# EAGLE library part PLC810PG (library power_integrations)
The PLC810PG is a combined PFC and LLC off-line controller with integrated high voltage half-bridge drivers. Figure 1 shows a simplified schematic of a PLC810PG based power supply where the LLC resonant inductor is integrated into the transformer. The PFC section of the PLC810PG is a universal input continuous current mode (CCM) design that does not require a sinusoidal input reference, thereby reducing system cost and external components. The DC-DC controller drives an LLC resonant topology. This variable frequency controller provides high efficiency by switching the power MOSFETs at zero voltage, eliminating most switching losses. The LLC controller is built around a current controlled oscillator with a control range selected to support the traditional frequency of operation found in televisions.
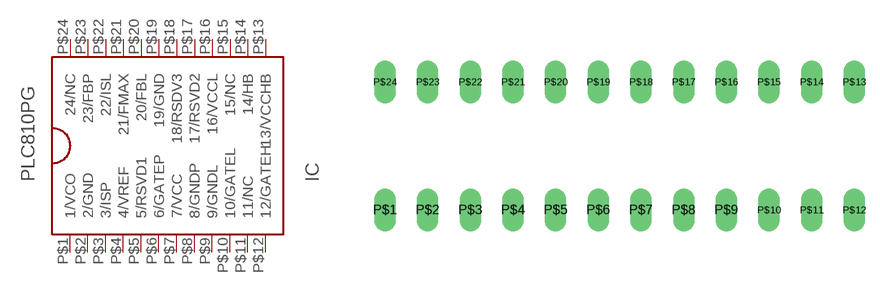
[diagram p8: symbol with the pads of PDIP-24_(0,3_P_PACKAGE); footprint PDIP-24_(0,3_P_PACKAGE)]

Designator prefix IC

## PLC810PG  [PDIP-24_(0,3_P_PACKAGE)]
P$1  1/VCO
P$2  2/GND  pwr
P$3  3/ISP
P$4  4/VREF
P$5  5/RSVD1
P$6  6/GATEP
P$7  7/VCC  pwr
P$8  8/GNDP  pwr
P$9  9/GNDL  pwr
P$10  10/GATEL
P$11  11/NC  nc
P$12  12/GATEH
P$13  13/VCCHB  pwr
P$14  14/HB
P$15  15/NC  nc
P$16  16/VCCL  pwr
P$17  17/RSVD2
P$18  18/RSDV3
P$19  19/GND  pwr
P$20  20/FBL
P$21  21/FMAX
P$22  22/ISL
P$23  23/FBP
P$24  24/NC  nc

## Footprint PDIP-24_(0,3_P_PACKAGE) (pad centres in mm)
drill 0.6 pad 1.27 long: P$1 -13.97,-3.81; P$2 -11.43,-3.81; P$3 -8.89,-3.81; P$4 -6.35,-3.81; P$5 -3.81,-3.81; P$6 -1.27,-3.81; P$7 1.27,-3.81; P$8 3.81,-3.81; P$9 6.35,-3.81; P$10 8.89,-3.81; P$11 11.43,-3.81; P$12 13.97,-3.81; P$13 13.97,3.81; P$14 11.43,3.81; P$15 8.89,3.81; P$16 6.35,3.81; P$17 3.81,3.81; P$18 1.27,3.81; P$19 -1.27,3.81; P$20 -3.81,3.81; P$21 -6.35,3.81; P$22 -8.89,3.81; P$23 -11.43,3.81; P$24 -13.97,3.81